# EAGLE library part 8 (library Connectors > Header)
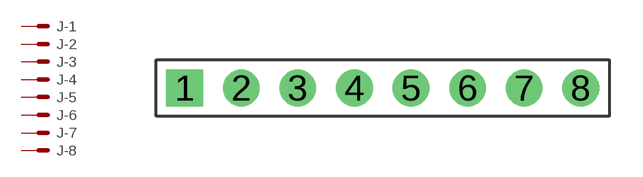
[diagram p3: symbol with the pads of 1X8_2.54; footprint 1X8_2.54]

Designator prefix J; gates -1=K -2=K -3=K -4=K -5=K -6=K -7=K -8=K

## 8  [1X8_2.54]
1  -1:S  pas
2  -2:S  pas
3  -3:S  pas
4  -4:S  pas
5  -5:S  pas
6  -6:S  pas
7  -7:S  pas
8  -8:S  pas

## Footprint 1X8_2.54 (pad centres in mm)
drill 1.1 square: 1 -8.89,0
drill 1.1: 2 -6.35,0; 3 -3.81,0; 4 -1.27,0; 5 1.27,0; 6 3.81,0; 7 6.35,0; 8 8.89,0